# Altium schematic symbol library QUTMS_JWPSConnector.SchLib: 2 symbols
Pins are listed as number, name and electrical type; pins without a type are passive.

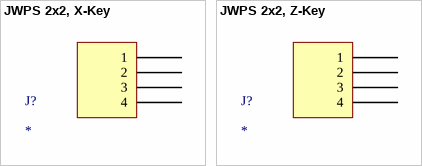
[diagram p0: symbols JWPS 2x2, X-Key to JWPS 2x2, Z-Key]

## JWPS 2x2, X-Key
designator J?
4.0mm pitch/Disconnectable Crimp style connectors
pins: 1, 2, 3, 4

## JWPS 2x2, Z-Key
designator J?
4.0mm pitch/Disconnectable Crimp style connectors
pins: 1, 2, 3, 4